# Altium footprint library Button_Switch_THT.PcbLib: 98 footprints (part 7 of 7)
Each footprint in its own frame and in the unit in brackets; x right, y up, seen from the top. Pads: shape width x height; smd on the part's side, far side on the other; paste and mask are expansions set on the pad; w line width, h text height; cw(c..) or ccw(c..) is an arc to the next point about the centre after c.
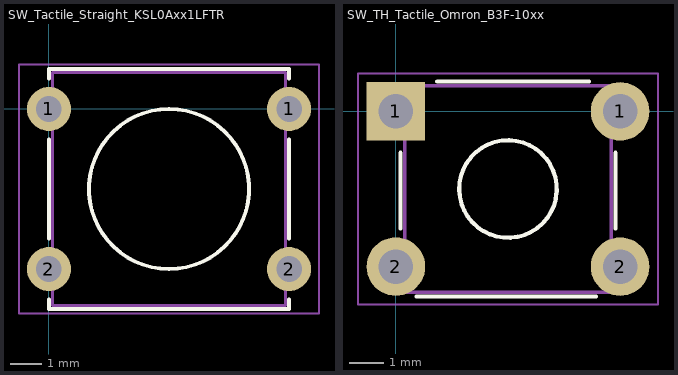
[diagram p6: the footprints below, top view; thin cyan lines are the x and y axes]

## SW_Tactile_Straight_KSL0Axx1LFTR [mil]
pads (4):
  round 55 hole 32: 1(0,0) 1(300,0) 2(0,-200) 2(300,-200)
F.SilkS:
  circle w4.72: c150,-100 r100
  lines w4.72: 0,-238.19 0,-250 300,-250 300,-238.19 ; 0,-161.81 0,-38.19 ; 0,38.19 0,50 300,50 300,38.19 ; 300,-161.81 300,-38.19
F.CrtYd:
  lines w1.97: -37.4,-255.51 337.4,-255.51 337.4,55.51 -37.4,55.51 -37.4,-255.51
F.Fab:
  lines w3.94: 4.33,-245.67 295.67,-245.67 295.67,45.67 4.33,45.67 4.33,-245.67
  text "'.Designator'" at -9.32,-133.08 h39.37

## SW_TH_Tactile_Omron_B3F-10xx [mm]
pads (4):
  rect 1.7x1.7 hole 1: 1(0,0)
  round 1.7 hole 1: 1(6.5,0) 2(0,-4.5) 2(6.5,-4.5)
F.SilkS:
  circle w0.12: c3.25,-2.25 r1.414
  lines w0.12: 0.13,-3.4 0.13,-1.2 ; 0.6,-5.37 5.8,-5.37 ; 1.2,0.87 5.6,0.87 ; 6.37,-3.4 6.37,-1.2
F.CrtYd:
  lines w0.05: -1.1,-5.6 7.6,-5.6 7.6,1.1 -1.1,1.1 -1.1,-5.6
F.Fab:
  lines w0.1: 0.25,-5.25 0.25,0.75 6.25,0.75 6.25,-5.25 0.25,-5.25
  text "'.Designator'" at -0.797,-3.09 h1